# Altium schematic symbol library Si7174DP.SchLib: 1 symbol
Pins are listed as number, name and electrical type; pins without a type are passive.

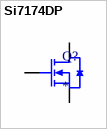
[diagram p0: symbol Si7174DP]

## Si7174DP
designator Q?
Si7174DP N-Channel 75V 60A Power Mosfet; Manufacturer: Vishay Siliconix; Vendor: Digi-Key; Price Est.: $4.45; Part No.: SI7174DP
pins: D, G, S